# Altium footprint library 20020110.PcbLib: 1 footprints
Each footprint in its own frame and in the unit in brackets; x right, y up, seen from the top. Pads: shape width x height; smd on the part's side, far side on the other; paste and mask are expansions set on the pad; w line width, h text height; cw(c..) or ccw(c..) is an arc to the next point about the centre after c.
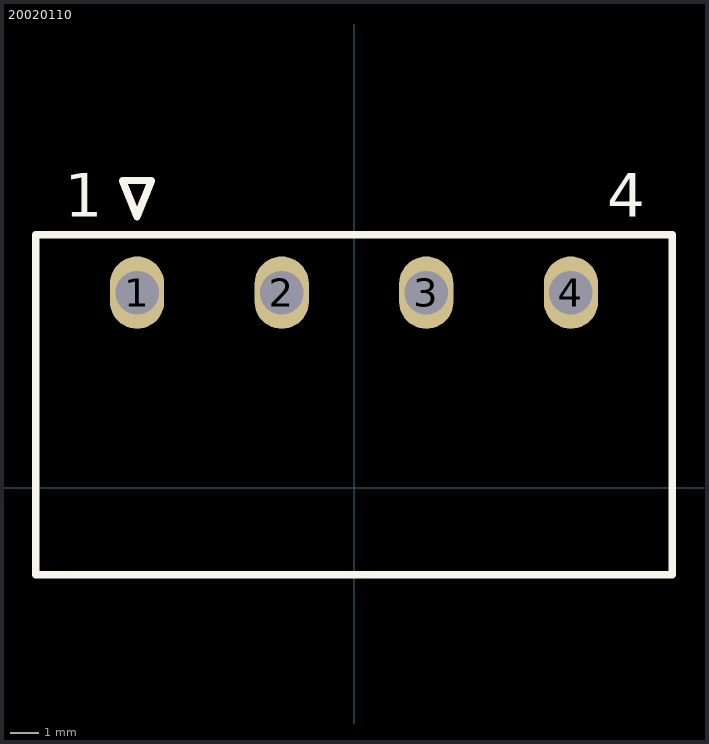
[diagram p0: the footprint, top view; thin cyan lines are the x and y axes]

## 20020110 [mil]
pads (4):
  oval 75x100 hole 60: 1(-300,270) 2(-100,270) 3(100,270) 4(300,270)
Top Overlay:
  lines w10: -440,-120 440,-120 440,350 -440,350 -440,-120 ; -320,425 -280,425 -300,375 -320,425
  text "1" at -400,375 h60
  text "4" at 350,375 h60
3D body: height 339.06, standoff -133.39, extent -439.37,-125 439.37,347.44